# EAGLE library part TPS54061 (library common)
Switching Reg - 60V Input / 200mA Output
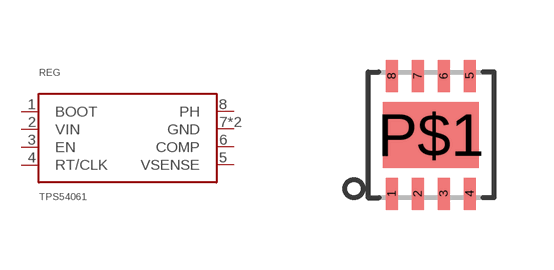
[diagram p14: symbol with the pads of S-PVSON-N8; footprint S-PVSON-N8]

Designator prefix REG

## TPS54061  [S-PVSON-N8]
1  BOOT
2  VIN
3  EN
4  RT/CLK
5  VSENSE
6  COMP
7  GND
8  PH
P$1  GND

## Footprint S-PVSON-N8 (pad centres in mm)
smd 0.3 x 0.8: 1 -0.975,-1.475; 2 -0.325,-1.475; 3 0.325,-1.475; 4 0.975,-1.475; 5 0.975,1.475; 6 0.325,1.475; 7 -0.325,1.475; 8 -0.975,1.475
smd 2.4 x 1.65: P$1 0,0